# Altium schematic symbol library SCH - MCU - RENESAS - RENESAS R7FS1JA7XXXXXXNE 48QFN.SchLib: 1 symbol
Pins are listed as number, name and electrical type; pins without a type are passive.

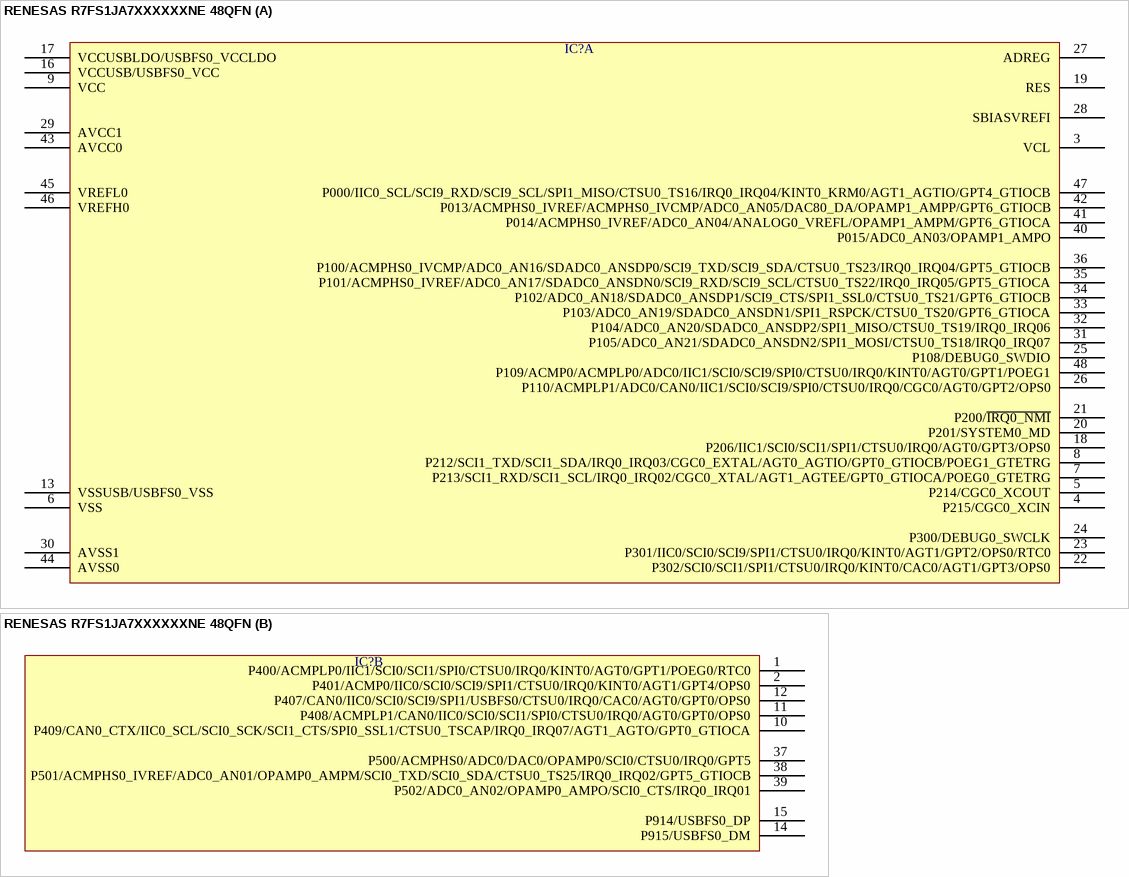
[diagram p0: symbol RENESAS R7FS1JA7XXXXXXNE 48QFN]

## RENESAS R7FS1JA7XXXXXXNE 48QFN
designator IC?  (value not drawn)
part A pins: 3 VCL, 4 P215/CGC0_XCIN, 5 P214/CGC0_XCOUT, 6 VSS, 7 P213/SCI1_RXD/SCI1_SCL/IRQ0_IRQ02/CGC0_XTAL/AGT1_AGTEE/GPT0_GTIOCA/POEG0_GTETRG, 8 P212/SCI1_TXD/SCI1_SDA/IRQ0_IRQ03/CGC0_EXTAL/AGT0_AGTIO/GPT0_GTIOCB/POEG1_GTETRG, 9 VCC, 13 VSSUSB/USBFS0_VSS, 16 VCCUSB/USBFS0_VCC, 17 VCCUSBLDO/USBFS0_VCCLDO, 18 P206/IIC1/SCI0/SCI1/SPI1/CTSU0/IRQ0/AGT0/GPT3/OPS0, 19 RES, 20 P201/SYSTEM0_MD, 21 P200/~{IRQ0_NMI}, 22 P302/SCI0/SCI1/SPI1/CTSU0/IRQ0/KINT0/CAC0/AGT1/GPT3/OPS0, 23 P301/IIC0/SCI0/SCI9/SPI1/CTSU0/IRQ0/KINT0/AGT1/GPT2/OPS0/RTC0, 24 P300/DEBUG0_SWCLK, 25 P108/DEBUG0_SWDIO, 26 P110/ACMPLP1/ADC0/CAN0/IIC1/SCI0/SCI9/SPI0/CTSU0/IRQ0/CGC0/AGT0/GPT2/OPS0, 27 ADREG, 28 SBIASVREFI, 29 AVCC1, 30 AVSS1, 31 P105/ADC0_AN21/SDADC0_ANSDN2/SPI1_MOSI/CTSU0_TS18/IRQ0_IRQ07, 32 P104/ADC0_AN20/SDADC0_ANSDP2/SPI1_MISO/CTSU0_TS19/IRQ0_IRQ06, 33 P103/ADC0_AN19/SDADC0_ANSDN1/SPI1_RSPCK/CTSU0_TS20/GPT6_GTIOCA, 34 P102/ADC0_AN18/SDADC0_ANSDP1/SCI9_CTS/SPI1_SSL0/CTSU0_TS21/GPT6_GTIOCB, 35 P101/ACMPHS0_IVREF/ADC0_AN17/SDADC0_ANSDN0/SCI9_RXD/SCI9_SCL/CTSU0_TS22/IRQ0_IRQ05/GPT5_GTIOCA, 36 P100/ACMPHS0_IVCMP/ADC0_AN16/SDADC0_ANSDP0/SCI9_TXD/SCI9_SDA/CTSU0_TS23/IRQ0_IRQ04/GPT5_GTIOCB, 40 P015/ADC0_AN03/OPAMP1_AMPO, 41 P014/ACMPHS0_IVREF/ADC0_AN04/ANALOG0_VREFL/OPAMP1_AMPM/GPT6_GTIOCA, 42 P013/ACMPHS0_IVREF/ACMPHS0_IVCMP/ADC0_AN05/DAC80_DA/OPAMP1_AMPP/GPT6_GTIOCB, 43 AVCC0, 44 AVSS0, 45 VREFL0, 46 VREFH0, 47 P000/IIC0_SCL/SCI9_RXD/SCI9_SCL/SPI1_MISO/CTSU0_TS16/IRQ0_IRQ04/KINT0_KRM0/AGT1_AGTIO/GPT4_GTIOCB, 48 P109/ACMP0/ACMPLP0/ADC0/IIC1/SCI0/SCI9/SPI0/CTSU0/IRQ0/KINT0/AGT0/GPT1/POEG1
part B pins: 1 P400/ACMPLP0/IIC1/SCI0/SCI1/SPI0/CTSU0/IRQ0/KINT0/AGT0/GPT1/POEG0/RTC0, 2 P401/ACMP0/IIC0/SCI0/SCI9/SPI1/CTSU0/IRQ0/KINT0/AGT1/GPT4/OPS0, 10 P409/CAN0_CTX/IIC0_SCL/SCI0_SCK/SCI1_CTS/SPI0_SSL1/CTSU0_TSCAP/IRQ0_IRQ07/AGT1_AGTO/GPT0_GTIOCA, 11 P408/ACMPLP1/CAN0/IIC0/SCI0/SCI1/SPI0/CTSU0/IRQ0/AGT0/GPT0/OPS0, 12 P407/CAN0/IIC0/SCI0/SCI9/SPI1/USBFS0/CTSU0/IRQ0/CAC0/AGT0/GPT0/OPS0, 14 P915/USBFS0_DM, 15 P914/USBFS0_DP, 37 P500/ACMPHS0/ADC0/DAC0/OPAMP0/SCI0/CTSU0/IRQ0/GPT5, 38 P501/ACMPHS0_IVREF/ADC0_AN01/OPAMP0_AMPM/SCI0_TXD/SCI0_SDA/CTSU0_TS25/IRQ0_IRQ02/GPT5_GTIOCB, 39 P502/ADC0_AN02/OPAMP0_AMPO/SCI0_CTS/IRQ0_IRQ01